# Altium footprint library screwire.PcbLib: 148 footprints (part 7 of 10)
Each footprint in its own frame and in the unit in brackets; x right, y up, seen from the top. Pads: shape width x height; smd on the part's side, far side on the other; paste and mask are expansions set on the pad; w line width, h text height; cw(c..) or ccw(c..) is an arc to the next point about the centre after c.
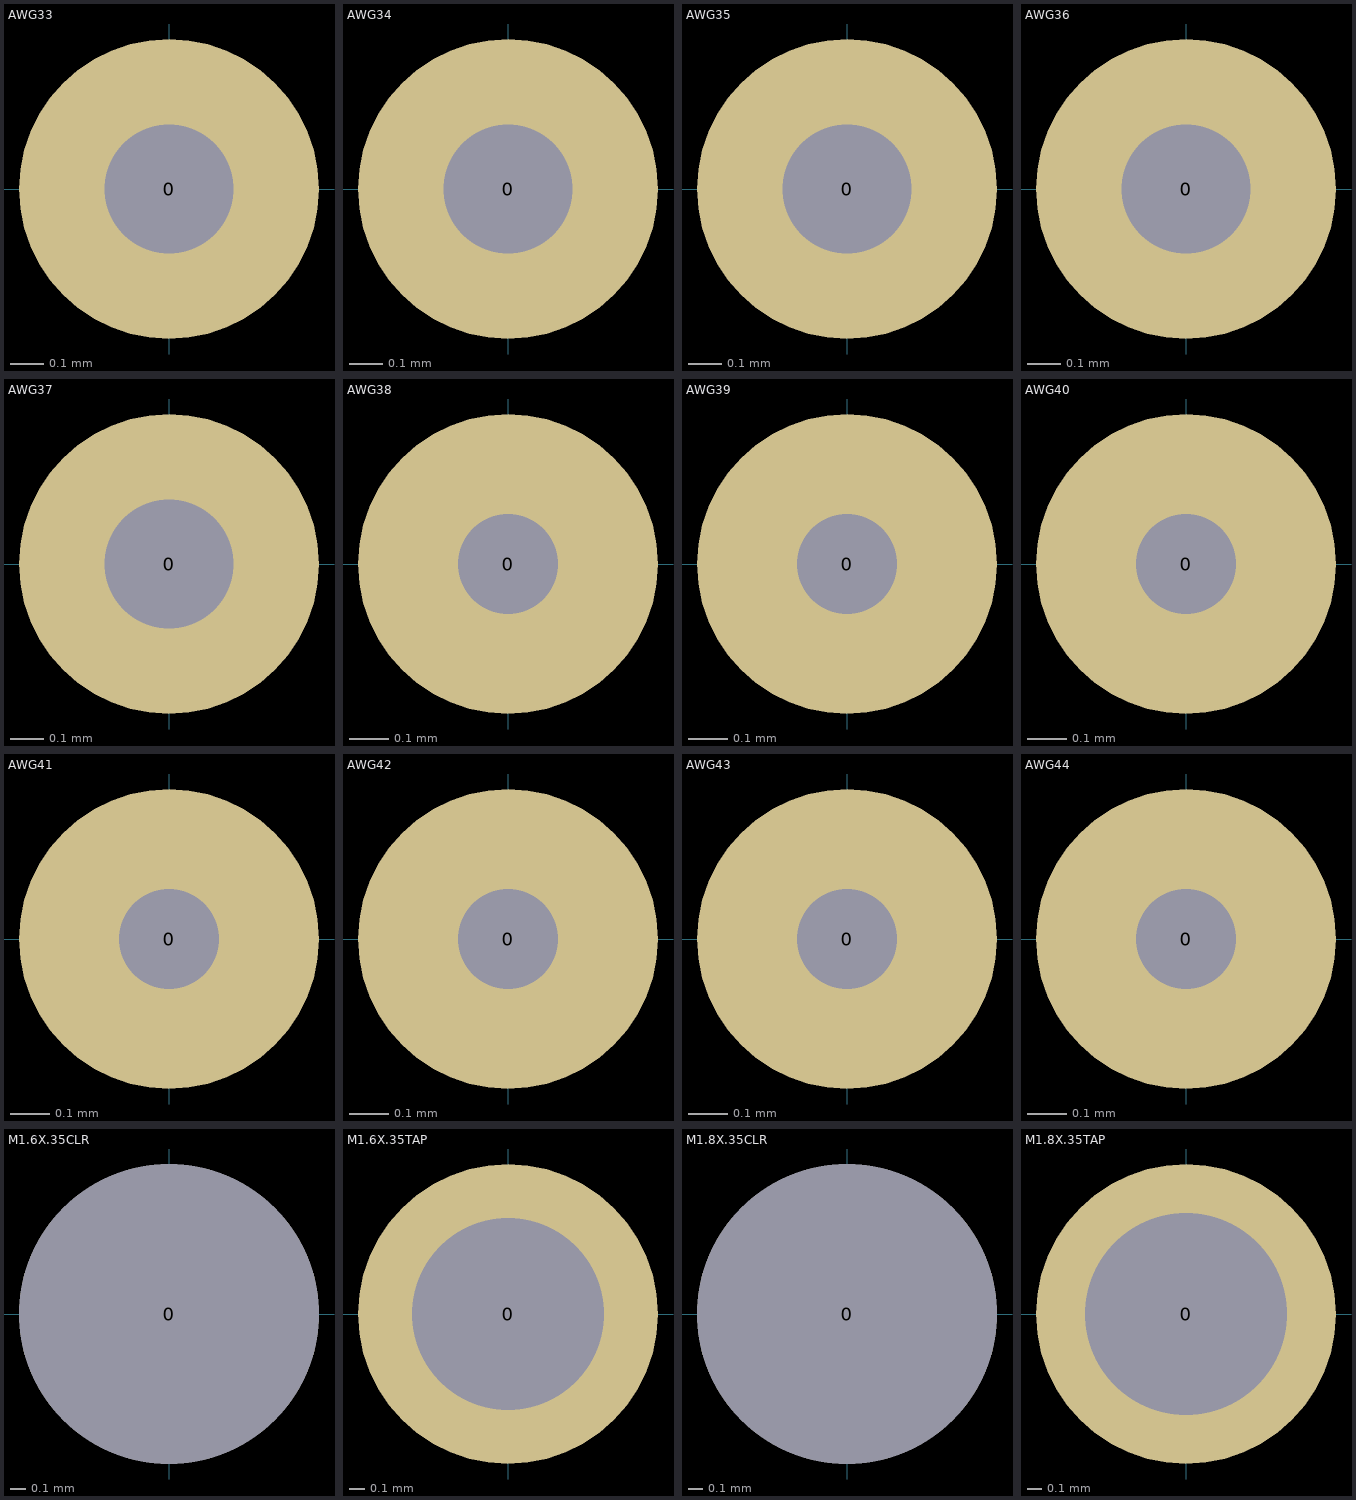
[diagram p6: the footprints below, top view; thin cyan lines are the x and y axes]

## AWG33 [mil]
pads (1):
  round 35 hole 15: 0(0,0)

## AWG34 [mil]
pads (1):
  round 35 hole 15: 0(0,0)

## AWG35 [mil]
pads (1):
  round 35 hole 15: 0(0,0)

## AWG36 [mil]
pads (1):
  round 35 hole 15: 0(0,0)

## AWG37 [mil]
pads (1):
  round 35 hole 15: 0(0,0)

## AWG38 [mil]
pads (1):
  round 30 hole 10: 0(0,0)

## AWG39 [mil]
pads (1):
  round 30 hole 10: 0(0,0)

## AWG40 [mil]
pads (1):
  round 30 hole 10: 0(0,0)

## AWG41 [mil]
pads (1):
  round 30 hole 10: 0(0,0)

## AWG42 [mil]
pads (1):
  round 30 hole 10: 0(0,0)

## AWG43 [mil]
pads (1):
  round 30 hole 10: 0(0,0)

## AWG44 [mil]
pads (1):
  round 30 hole 10: 0(0,0)

## M1.6X.35CLR [mil]
pads (1):
  round 75 hole 75: 0(0,0)

## M1.6X.35TAP [mil]
pads (1):
  round 75 hole 48: 0(0,0)

## M1.8X.35CLR [mil]
pads (1):
  round 83 hole 83: 0(0,0)

## M1.8X.35TAP [mil]
pads (1):
  round 83 hole 56: 0(0,0)